# Altium footprint library to.PcbLib: 51 footprints (part 2 of 4)
Each footprint in its own frame and in the unit in brackets; x right, y up, seen from the top. Pads: shape width x height; smd on the part's side, far side on the other; paste and mask are expansions set on the pad; w line width, h text height; cw(c..) or ccw(c..) is an arc to the next point about the centre after c.
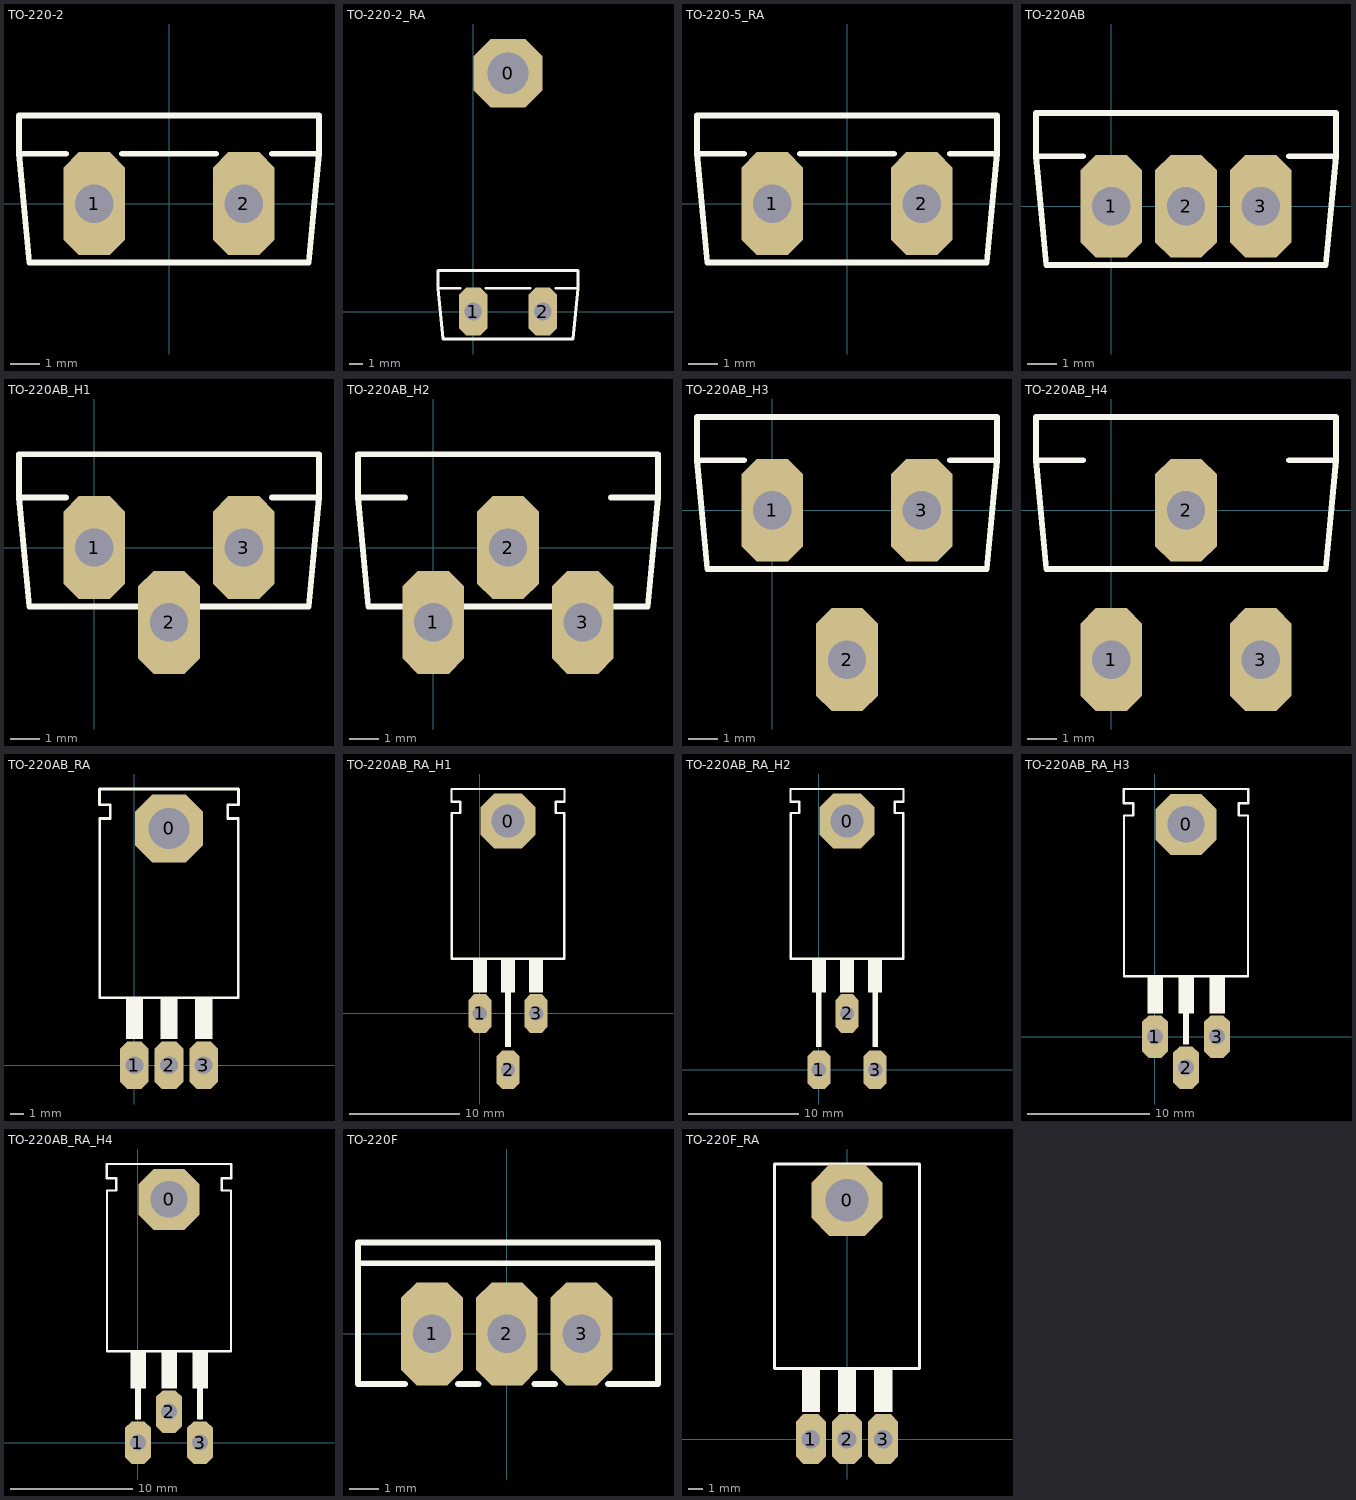
[diagram p1: the footprints below, top view; thin cyan lines are the x and y axes]

## TO-220-2 [mm]
pads (2):
  oct 2.1x3.5 hole 1.3: 1(-2.54,0) 2(2.54,0)
Top Overlay:
  lines w0.2: -3.5,1.7 -5.1,1.7 ; -1.6,1.7 1.6,1.7 ; 3.5,1.7 5.1,1.7 ; -5.1,1.7 -5.1,3 5.1,3 5.1,1.7 ; -5.1,1.7 -4.75,-2 4.75,-2 5.1,1.7

## TO-220-2_RA [mm]
pads (3):
  oct 5x5 hole 3: 0(2.54,17.39)
  oct 2.1x3.5 hole 1.3: 1(0,0) 2(5.08,0)
Top Overlay:
  lines w0.2: -0.96,1.7 -2.56,1.7 ; 0.94,1.7 4.14,1.7 ; 6.04,1.7 7.64,1.7 ; -2.56,1.7 -2.21,-2 7.29,-2 7.64,1.7 ; -2.56,1.7 -2.56,3 7.64,3 7.64,1.7
3D body "User Library-TO220-2_OR-INV.STEP": height 4.5, standoff -2.61, extent -2.46,-0.425 7.54,20.175

## TO-220-5 [mm]
3D body "SW3dPS-TO220-5.STEP": height 6.98, standoff -1.26, extent -5.78,-10.04 4.38,13.95

## TO-220-5_RA [mm]
pads (2):
  oct 2.1x3.5 hole 1.3: 1(-2.54,0) 2(2.54,0)
Top Overlay:
  lines w0.2: -3.5,1.7 -5.1,1.7 ; -1.6,1.7 1.6,1.7 ; 3.5,1.7 5.1,1.7 ; -5.1,1.7 -5.1,3 5.1,3 5.1,1.7 ; -5.1,1.7 -4.75,-2 4.75,-2 5.1,1.7
3D body "User Library-TO-220-5.STEP": height 4.06, standoff -2.45, extent -5.225,-0.209 4.937,19.959

## TO-220AB [mm]
pads (3):
  oct 2.1x3.5 hole 1.3: 1(0,0) 2(2.54,0) 3(5.08,0)
Top Overlay:
  lines w0.2: -0.96,1.7 -2.56,1.7 ; 6.04,1.7 7.64,1.7 ; -2.56,1.7 -2.56,3.175 7.64,3.175 7.64,1.7 ; -2.56,1.7 -2.21,-2 7.29,-2 7.64,1.7
3D body "SW3DPS-TO-220HS-DEFAULT.STEP": height 18.54, standoff -3.81, extent -2.54,-1.397 7.62,3.175

## TO-220AB_H1 [mm]
pads (3):
  oct 2.1x3.5 hole 1.3: 1(0,0) 2(2.54,-2.54) 3(5.08,0)
Top Overlay:
  lines w0.2: -0.96,1.7 -2.56,1.7 ; 6.04,1.7 7.64,1.7 ; -2.56,1.7 -2.21,-2 7.29,-2 7.64,1.7 ; -2.56,1.7 -2.56,3.175 7.64,3.175 7.64,1.7
3D body "User Library-TO2201A 2,54.STEP": height 25.21, standoff -1.95, extent -2.7,-2.7 7.7,3.041

## TO-220AB_H2 [mm]
pads (3):
  oct 2.1x3.5 hole 1.3: 1(0,-2.54) 2(2.54,0) 3(5.08,-2.54)
Top Overlay:
  lines w0.2: -0.96,1.7 -2.56,1.7 ; 6.04,1.7 7.64,1.7 ; -2.56,1.7 -2.56,3.175 7.64,3.175 7.64,1.7 ; -2.56,1.7 -2.21,-2 7.29,-2 7.64,1.7
3D body "User Library-TO2202A 2,54.STEP": height 25.21, standoff -1.95, extent -2.7,-2.7 7.7,3.041

## TO-220AB_H3 [mm]
pads (3):
  oct 2.1x3.5 hole 1.3: 1(0,0) 2(2.54,-5.08) 3(5.08,0)
Top Overlay:
  lines w0.2: -0.96,1.7 -2.56,1.7 ; 6.04,1.7 7.64,1.7 ; -2.56,1.7 -2.56,3.175 7.64,3.175 7.64,1.7 ; -2.56,1.7 -2.21,-2 7.29,-2 7.64,1.7
3D body "User Library-TO2201A 5,08.STEP": height 25.21, standoff -0.49, extent -2.66,-5.08 7.74,3.201

## TO-220AB_H4 [mm]
pads (3):
  oct 2.1x3.5 hole 1.3: 1(0,-5.08) 2(2.54,0) 3(5.08,-5.08)
Top Overlay:
  lines w0.2: -0.96,1.7 -2.56,1.7 ; 6.04,1.7 7.64,1.7 ; -2.56,1.7 -2.21,-2 7.29,-2 7.64,1.7 ; -2.56,1.7 -2.56,3.175 7.64,3.175 7.64,1.7
3D body "User Library-TO2202A 5,08.STEP": height 25.21, standoff -0.49, extent -2.66,-5.08 7.74,3.201

## TO-220AB_RA [mm]
pads (4):
  oct 5x5 hole 3: 0(2.54,17.39)
  oct 2.1x3.5 hole 1.3: 1(0,0) 2(2.54,0) 3(5.08,0)
Top Overlay:
  rectangle: -0.63,1.905 0.64,4.957
  rectangle: 1.91,1.905 3.18,4.957
  rectangle: 4.45,1.905 5.72,4.957
  lines w0.2: -2.56,19.134 -2.56,20.29 7.62,20.29 ; -2.54,18.09 -2.54,4.953 7.62,4.953 7.62,18.09 ; -2.54,18.118 -1.778,18.118 -1.778,19.134 -2.54,19.134 ; 7.62,18.118 6.858,18.118 6.858,19.134 7.62,19.134 ; 7.64,19.134 7.64,20.29
3D body "User Library-TO220-3_OR-INV.STEP": height 4.5, standoff -2.61, extent -2.46,-0.41 7.54,20.19

## TO-220AB_RA_H1 [mm]
pads (4):
  oct 5x5 hole 3: 0(2.54,17.39)
  oct 2.1x3.5 hole 1.3: 1(0,0) 2(2.54,-5.08) 3(5.08,0)
Top Overlay:
  rectangle: -0.63,1.905 0.64,4.957
  rectangle: 1.91,1.905 3.18,4.957
  rectangle: 4.45,1.905 5.72,4.957
  rectangle: 2.286,-3.048 2.794,2.417
  lines w0.2: -2.56,19.134 -2.56,20.29 7.62,20.29 ; -2.54,18.09 -2.54,4.953 7.62,4.953 7.62,18.09 ; -2.54,18.118 -1.778,18.118 -1.778,19.134 -2.54,19.134 ; 7.62,18.118 6.858,18.118 6.858,19.134 7.62,19.134 ; 7.64,19.134 7.64,20.29
3D body "User Library-TO220-3_OR-INV.STEP": height 4.5, standoff -2.61, extent -2.46,-0.41 7.54,20.19

## TO-220AB_RA_H2 [mm]
pads (4):
  oct 5x5 hole 3: 0(2.54,22.47)
  oct 2.1x3.5 hole 1.3: 1(0,0) 2(2.54,5.08) 3(5.08,0)
Top Overlay:
  rectangle: 4.45,6.985 5.72,10.037
  rectangle: 1.91,6.985 3.18,10.037
  rectangle: -0.63,6.985 0.64,10.037
  rectangle: -0.254,2.032 0.254,7.497
  rectangle: 4.826,2.032 5.334,7.497
  lines w0.2: -2.56,24.214 -2.56,25.37 7.62,25.37 ; -2.54,23.17 -2.54,10.033 7.62,10.033 7.62,23.17 ; -2.54,23.198 -1.778,23.198 -1.778,24.214 -2.54,24.214 ; 7.62,23.198 6.858,23.198 6.858,24.214 7.62,24.214 ; 7.64,24.214 7.64,25.37
3D body "User Library-TO220-3_OR-INV.STEP": height 4.5, standoff -2.61, extent -2.46,4.67 7.54,25.27

## TO-220AB_RA_H3 [mm]
pads (4):
  oct 5x5 hole 3: 0(2.54,17.39)
  oct 2.1x3.5 hole 1.3: 1(0,0) 2(2.54,-2.54) 3(5.08,0)
Top Overlay:
  rectangle: -0.63,1.905 0.64,4.957
  rectangle: 1.91,1.905 3.18,4.957
  rectangle: 4.45,1.905 5.72,4.957
  rectangle: 2.286,-0.635 2.794,2.417
  lines w0.2: -2.56,19.134 -2.56,20.29 7.62,20.29 ; -2.54,18.09 -2.54,4.953 7.62,4.953 7.62,18.09 ; -2.54,18.118 -1.778,18.118 -1.778,19.134 -2.54,19.134 ; 7.62,18.118 6.858,18.118 6.858,19.134 7.62,19.134 ; 7.64,19.134 7.64,20.29
3D body "User Library-TO220-3_OR-INV.STEP": height 4.5, standoff -2.61, extent -2.46,-0.41 7.54,20.19

## TO-220AB_RA_H4 [mm]
pads (4):
  oct 5x5 hole 3: 0(2.54,19.93)
  oct 2.1x3.5 hole 1.3: 1(0,0) 2(2.54,2.54) 3(5.08,0)
Top Overlay:
  rectangle: 4.826,1.905 5.334,4.957
  rectangle: -0.254,1.905 0.254,4.957
  rectangle: -0.63,4.445 0.64,7.497
  rectangle: 1.91,4.445 3.18,7.497
  rectangle: 4.45,4.445 5.72,7.497
  lines w0.2: -2.56,21.674 -2.56,22.83 7.62,22.83 ; -2.54,20.63 -2.54,7.493 7.62,7.493 7.62,20.63 ; -2.54,20.658 -1.778,20.658 -1.778,21.674 -2.54,21.674 ; 7.62,20.658 6.858,20.658 6.858,21.674 7.62,21.674 ; 7.64,21.674 7.64,22.83
3D body "User Library-TO220-3_OR-INV.STEP": height 4.5, standoff -2.61, extent -2.46,2.13 7.54,22.73

## TO-220F [mm] "TO, Thru-Hole, Vertical, Heatsink Mounted; 3 In-Line Leads; Pitch 2.54 mm"
height 19.7
pads (3):
  oct 2.1x3.5 hole 1.3: 1(-2.54,0) 2(0,0) 3(2.54,0)
Top Overlay:
  lines w0.2: -5.06,2.4 5.14,2.4 ; -3.46,-1.7 -5.06,-1.7 -5.06,3.1 5.14,3.1 5.14,-1.7 3.44,-1.7 ; -1.66,-1.7 -0.96,-1.7 ; 0.94,-1.7 1.64,-1.7
3D body "User Library-TO220F.STEP": height 21.37, standoff -3.25, extent -5.016,-1.643 5.017,3.043

## TO-220F_RA [mm] "TO, Thru-Hole, Vertical, Heatsink Mounted; 3 In-Line Leads; Pitch 2.54 mm"
height 19.7
pads (4):
  oct 5x5 hole 3: 0(0,16.764)
  oct 2.1x3.5 hole 1.3: 1(-2.54,0) 2(0,0) 3(2.54,0)
Top Overlay:
  rectangle: -3.17,1.905 -1.9,4.957
  rectangle: -0.63,1.905 0.64,4.957
  rectangle: 1.91,1.905 3.18,4.957
  lines w0.2: -5.08,4.953 5.08,4.953 5.08,19.304 -5.08,19.304 -5.08,4.953